# Altium footprint library CAP_CAN_TH_5mmLS10mmD.PcbLib: 1 footprints
Each footprint in its own frame and in the unit in brackets; x right, y up, seen from the top. Pads: shape width x height; smd on the part's side, far side on the other; paste and mask are expansions set on the pad; w line width, h text height; cw(c..) or ccw(c..) is an arc to the next point about the centre after c.
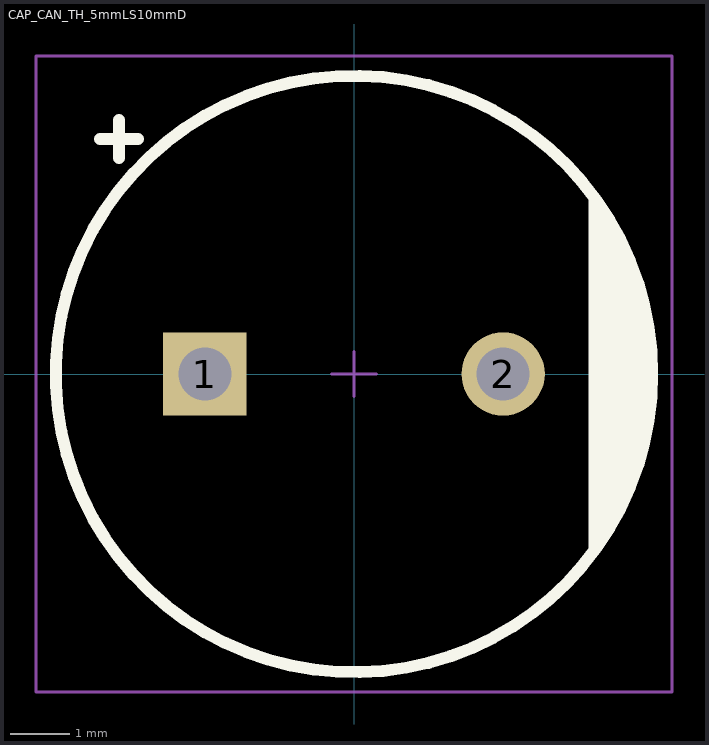
[diagram p0: the footprint, top view; thin cyan lines are the x and y axes]

## CAP_CAN_TH_5mmLS10mmD [mil]
pads (2):
  rect 55x55 hole 35: 1(-98.43,0)
  round 55 hole 35: 2(98.43,0)
Top Overlay:
  circle w7.87: c0,0 r196.85
  region: 155,115 155,-115 170,-100 190,-50 196.85,0 190,55 170,100
  lines w7.87: -167.5,155 -142.5,155 ; -155,142.5 -155,167.5
Mechanical 15:
  lines w1.97: -15,0 15,0 ; 0,-15 0,15 ; -210,-210 -210,210 210,210 210,-210 -210,-210